# EAGLE library part LM741CN (library ls_403_signal_converter)
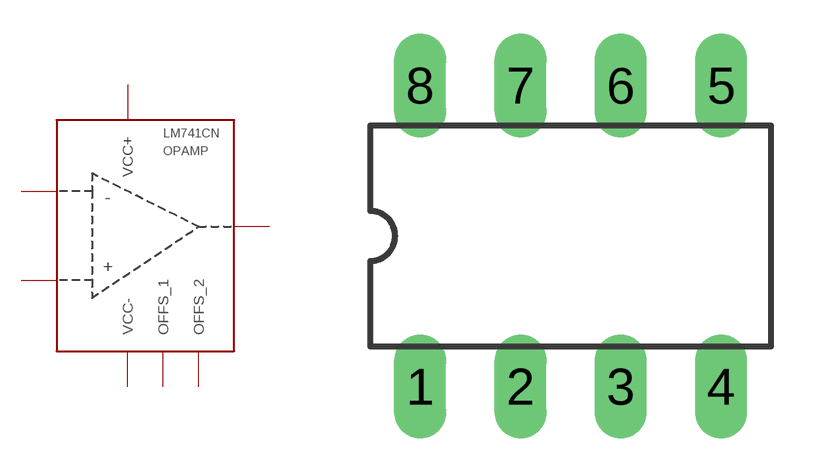
[diagram p0: symbol with the pads of DIL08; footprint DIL08]

Designator prefix OPAMP

## LM741CN  [DIL08]
1  OFFS_1
2  INVERT_I
3  NON_INVERT_I
4  VCC-
5  OFFS_2
6  OUTPUT
7  VCC+

## Footprint DIL08 (pad centres in mm)
Dual In Line
drill 0.813 long: 1 -3.81,-3.81; 2 -1.27,-3.81; 3 1.27,-3.81; 4 3.81,-3.81; 5 3.81,3.81; 6 1.27,3.81; 7 -1.27,3.81; 8 -3.81,3.81